# EAGLE library part MP3401A (library blinkinlabs)
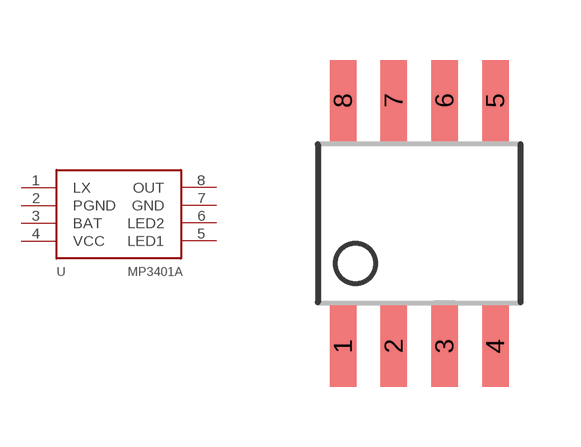
[diagram p21: symbol with the pads of SO08-150; footprint SO08-150]

Designator prefix -

## MP3401A  [SO08-150]
1  LX
2  PGND
3  BAT
4  VCC
5  LED1
6  LED2
7  GND
8  OUT

## Footprint SO08-150 (pad centres in mm)
Small Outline package 8 150 mil
smd 0.66 x 2.032: 1 -1.905,-3.073; 2 -0.635,-3.073; 3 0.635,-3.073; 4 1.905,-3.073; 5 1.905,3.073; 6 0.635,3.073; 7 -0.635,3.073; 8 -1.905,3.073